# Altium schematic symbol library Schlib1.SchLib: 24 symbols
Pins are listed as number, name and electrical type; pins without a type are passive.

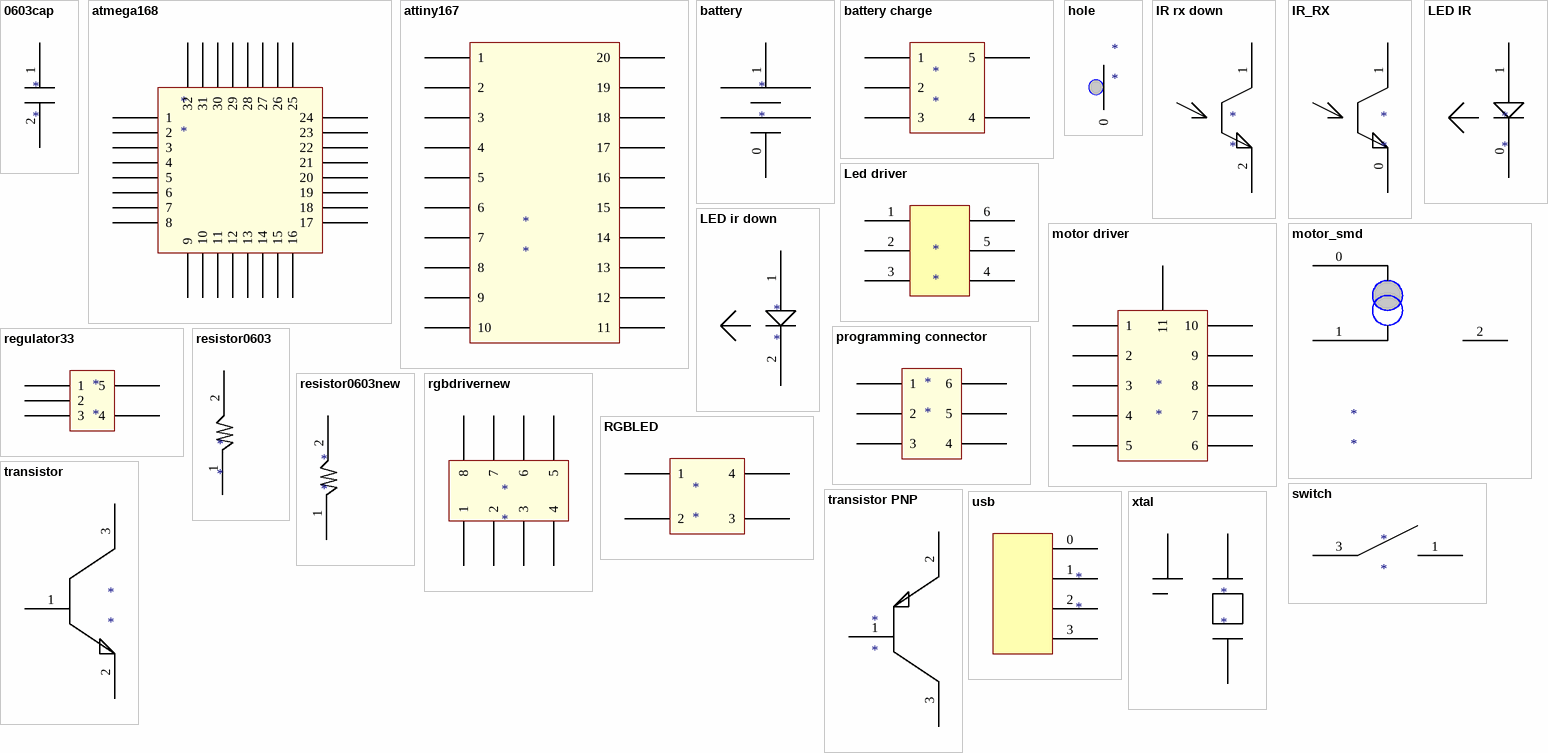
[diagram p0: symbols 0603cap to xtal]

## 0603cap
designator *
footprint 0603
pins: 1, 2

## atmega168
designator *
footprint 32pintqfp
pins: 1, 2, 3, 4, 5, 6, 7, 8, 9, 10, 11, 12, 13, 14, 15, 16, 17, 18, 19, 20, 21, 22, 23, 24, 25, 26, 27, 28, 29, 30, 31, 32

## attiny167
designator *
footprint attiny167
pins: 1, 2, 3, 4, 5, 6, 7, 8, 9, 10, 11, 12, 13, 14, 15, 16, 17, 18, 19, 20

## battery
designator *
footprint battery
pins: 0, 1, 2

## battery charge
designator *
footprint Battery charger
pins: 1, 2, 3, 4, 5

## hole
designator *
footprint hole
pins: 0

## IR rx down
designator *
footprint irdown
pins: 1, 2

## IR_RX
designator *
footprint ir sensor
pins: 0, 1

## Led driver
designator *
footprint led driver
pins: 1, 2, 3, 4, 5, 6

## LED IR
designator *
footprint ir led
pins: 0, 1

## LED ir down
designator *
footprint irdown
pins: 1, 2

## motor driver
designator *
footprint motor driver
pins: 1, 2, 3, 4, 5, 6, 7, 8, 9, 10, 11

## motor_smd
designator *
footprint motor
pins: 0, 1, 2

## programming connector
designator *
footprint Program connector
pins: 1, 2, 3, 4, 5, 6

## regulator33
designator *
footprint regulator
pins: 1, 2, 3, 4, 5

## resistor0603
designator *
footprint 0603
pins: 1, 2

## resistor0603new
designator *
footprint 0603new
pins: 1, 2

## rgbdrivernew
designator *
footprint RGBdrivernew
pins: 1, 2, 3, 4, 5, 6, 7, 8

## RGBLED
designator *
footprint rgbled
pins: 1, 2, 3, 4

## switch
designator *
footprint switch
pins: 1, 3

## transistor
designator *
footprint transistor
pins: 1, 2, 3

## transistor PNP
designator *
footprint transistor
pins: 1, 2, 3

## usb
designator *
footprint usb
pins: 0, 1, 2, 3

## xtal
designator *
footprint xtal1
pins: 1, 2, 3, 4